# Altium footprint library ES_Pcb.PcbLib: 383 footprints (part 18 of 24)
Each footprint in its own frame and in the unit in brackets; x right, y up, seen from the top. Pads: shape width x height; smd on the part's side, far side on the other; paste and mask are expansions set on the pad; w line width, h text height; cw(c..) or ccw(c..) is an arc to the next point about the centre after c.
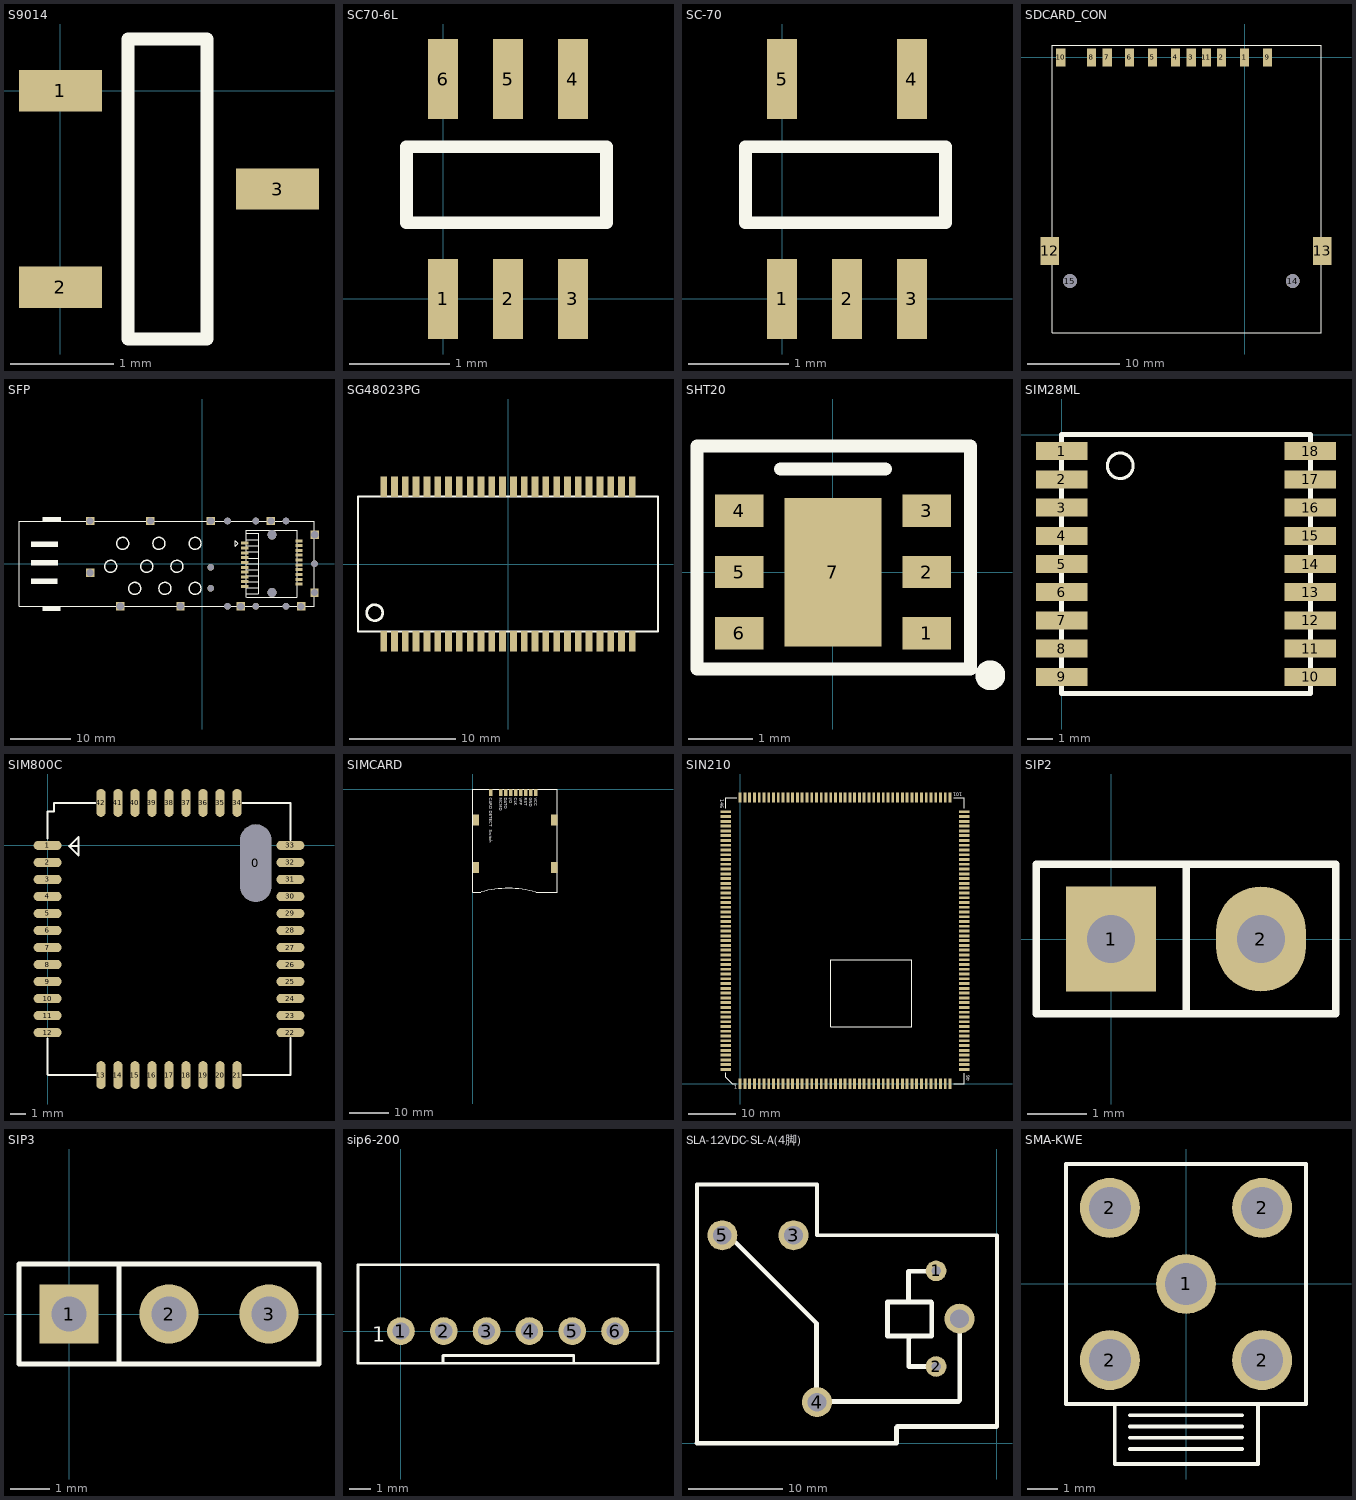
[diagram p17: the footprints below, top view; thin cyan lines are the x and y axes]

## S9014 [mm]
pads (3):
  rect 0.8x0.4 smd: 1(0,0) 2(0,-1.9) 3(2.1,-0.95)
Top Overlay:
  lines w0.127: 0.654,-2.4 1.416,-2.4 1.416,0.5 0.654,0.5 0.654,-2.4

## SC70-6L [mm]
pads (6):
  rect 0.3x0.8 smd: 1(0,0) 2(0.65,0) 3(1.3,0) 4(1.3,2.2) 5(0.65,2.2) 6(0,2.2)
Top Overlay:
  lines w0.127: -0.365,0.762 -0.365,1.524 1.635,1.524 1.635,0.762 -0.365,0.762

## SC-70 [mm]
pads (5):
  rect 0.3x0.8 smd: 1(0,0) 2(0.65,0) 3(1.3,0) 4(1.3,2.2) 5(0,2.2)
Top Overlay:
  lines w0.127: -0.365,0.762 1.635,0.762 1.635,1.524 -0.365,1.524 -0.365,0.762

## SDCARD_CON [mm]
pads (15):
  rect 1x2 smd: 1(0,0) 2(-2.5,0) 3(-5.8,0) 4(-7.5,0) 5(-10,0) 6(-12.5,0) 7(-14.925,0) 8(-16.625,0) 9(2.5,0) 10(-19.975,0) 11(-4.15,0)
  rect 2x3 smd: 12(-21.159,-21.023) 13(8.432,-21.023)
  round 1.5 hole 1.5 unplated: 14(5.225,-24.3) 15(-18.975,-24.3)
Top Overlay:
  lines w0.127: -20.9,-29.89 -20.9,1.31 8.305,1.31 8.305,-29.89 -20.9,-29.89

## SFP [mm]
pads (40):
  rect 1.2x0.5 smd: 1(7,3.412) 2(7,2.612) 3(7,1.812) 4(7,1.012) 5(7,0.212) 6(7,-0.588) 7(7,-1.388) 8(7,-2.188) 9(7,-2.988) 10(7,-3.788) 11(16,-3.388) 12(16,-2.588) 13(16,-1.788) 14(16,-0.988) 15(16,-0.188) 16(16,0.612) 17(16,1.412) 18(16,2.212) 19(16,3.012) 20(16,3.812)
  rect 1.4x1.4 hole 1.2: ""(-18.638,-1.488) ""(-18.638,7.087) ""(-13.638,-7.063) ""(-8.638,7.087) ""(-3.638,-7.063) ""(1.362,7.087) ""(6.362,-7.087) ""(11.362,7.087) ""(16.362,-7.087) ""(18.587,-4.788) ""(18.638,4.812)
  round 1.1 hole 1.1: ""(1.362,-4.064) ""(1.362,-0.584) ""(4.162,-7.063) ""(4.162,7.087) ""(8.862,-7.063) ""(8.862,7.087) ""(13.862,-7.063) ""(13.862,7.087) ""(18.587,0.012)
via 11.512,-4.788 diameter 1.5 hole 1.5
via 11.512,4.812 diameter 1.5 hole 1.5
Top Overlay:
  circle w0.254: c-13.232,3.376 r1
  circle w0.254: c-7.231,3.376 r1
  circle w0.254: c-1.231,3.376 r1
  circle w0.254: c-15.231,-0.434 r1
  circle w0.254: c-9.231,-0.434 r1
  circle w0.254: c-4.232,-0.434 r1
  circle w0.254: c-11.231,-4.092 r1
  circle w0.254: c-6.231,-4.091 r1
  circle w0.254: c-1.231,-4.091 r1
  rectangle: -26.497,-7.876 -23.551,-7.089
  rectangle: -26.498,6.957 -23.475,7.745
  rectangle: -28.479,2.741 -23.958,3.655
  rectangle: -28.479,-0.256 -24.008,0.658
  rectangle: -28.479,-3.33 -24.059,-2.415
  lines w0.2: 5.426,2.882 5.883,3.339 ; 5.426,2.907 5.426,3.822 5.883,3.364 ; 7.28,-5.563 7.28,5.587 ; 7.284,-2.999 9.24,-2.999 ; 7.284,2.004 9.24,2.004 ; 7.31,-3.99 9.266,-3.99 ; 7.31,-1.983 9.266,-1.983 ; 7.31,-0.993 9.266,-0.993 ; 7.31,-0.002 9.266,-0.002 ; 7.31,0.938 9.266,0.938 ; 7.31,2.995 9.266,2.995 ; 7.31,4.012 9.266,4.011 ; 7.335,-4.981 9.291,-4.981 ; 7.337,-5.563 15.687,-5.563 ; 7.337,5.587 15.687,5.587 ; 7.361,5.028 9.317,5.027 ; 9.342,-4.955 9.342,5.023 ; 15.692,-5.564 15.692,5.586 ; -30.438,-7.063 -30.438,7.087 18.562,7.087 18.562,-7.063 -30.438,-7.063

## SG48023PG [mm]
pads (48):
  rect 0.64x1.94 smd: 1(-11.73,-7.275) 2(-10.71,-7.275) 3(-9.69,-7.275) 4(-8.67,-7.275) 5(-7.65,-7.275) 6(-6.63,-7.275) 7(-5.61,-7.275) 8(-4.59,-7.275) 9(-3.57,-7.275) 10(-2.55,-7.275) 11(-1.53,-7.275) 12(-0.51,-7.275) 13(0.51,-7.275) 14(1.53,-7.275) 15(2.55,-7.275) 16(3.57,-7.275) 17(4.59,-7.275) 18(5.61,-7.275) 19(6.63,-7.275) 20(7.65,-7.275) 21(8.67,-7.275) 22(9.69,-7.275) 23(10.71,-7.275) 24(11.73,-7.275) 25(11.73,7.275) 26(10.71,7.275) 27(9.69,7.275) 28(8.67,7.275) 29(7.65,7.275) 30(6.63,7.275) 31(5.61,7.275) 32(4.59,7.275) 33(3.57,7.275) 34(2.55,7.275) 35(1.53,7.275) 36(0.51,7.275) 37(-0.51,7.275) 38(-1.53,7.275) 39(-2.55,7.275) 40(-3.57,7.275) 41(-4.59,7.275) 42(-5.61,7.275) 43(-6.63,7.275) 44(-7.65,7.275) 45(-8.67,7.275) 46(-9.69,7.275) 47(-10.71,7.275) 48(-11.73,7.275)
Top Overlay:
  circle w0.254: c-12.575,-4.597 r0.754
  lines w0.2: -14.15,-6.35 14.15,-6.35 14.15,6.35 -14.15,6.35 -14.15,-6.35

## SHT20 [mm]
pads (7):
  rect 0.75x0.5 smd: 1(1.452,-0.95) 2(1.452,0) 3(1.452,0.95) 4(-1.452,0.95) 5(-1.452,0) 6(-1.452,-0.95)
  rect 1.5x2.3 smd: 7(0,0)
Top Overlay:
  circle w0.254: c2.438,-1.6 r0.105
  lines w0.2: -0.813,1.6 0.813,1.6 ; -2.108,-1.5 2.134,-1.5 2.134,1.956 -2.108,1.956 -2.108,-1.5

## SIM28ML [mm]
pads (18):
  rect 2x0.7 smd: 1(0,-0.65) 2(0,-1.75) 3(0,-2.85) 4(0,-3.95) 5(0,-5.05) 6(0,-6.15) 7(0,-7.25) 8(0,-8.35) 9(0,-9.45) 10(9.7,-9.45) 11(9.7,-8.35) 12(9.7,-7.25) 13(9.7,-6.15) 14(9.7,-5.05) 15(9.7,-3.95) 16(9.7,-2.85) 17(9.7,-1.75) 18(9.7,-0.65)
Top Overlay:
  circle w0.127: c2.286,-1.219 r0.5
  lines w0.2: 0,-10.1 9.7,-10.1 9.7,0 0,0 0,-10.1

## SIM800C [mm]
pads (43):
  round 1 hole 2 slot 5 at 90 deg: 0(13.462,-1.143)
  oval 1.8x0.6 smd: 1(0,0) 2(0,-1.1) 3(0,-2.2) 4(0,-3.3) 5(0,-4.4) 6(0,-5.5) 7(0,-6.6) 8(0,-7.7) 9(0,-8.8) 10(0,-9.9) 11(0,-11) 12(0,-12.1) 22(15.7,-12.1) 23(15.7,-11) 24(15.7,-9.9) 25(15.7,-8.8) 26(15.7,-7.7) 27(15.7,-6.6) 28(15.7,-5.5) 29(15.7,-4.4) 30(15.7,-3.3) 31(15.7,-2.2) 32(15.7,-1.1) 33(15.7,0)
  oval 0.6x1.8 smd: 13(3.45,-14.85) 14(4.55,-14.85) 15(5.65,-14.85) 16(6.75,-14.85) 17(7.85,-14.85) 18(8.95,-14.85) 19(10.05,-14.85) 20(11.15,-14.85) 21(12.25,-14.85) 34(12.25,2.75) 35(11.15,2.75) 36(10.05,2.75) 37(8.95,2.75) 38(7.85,2.75) 39(6.75,2.75) 40(5.65,2.75) 41(4.55,2.75) 42(3.45,2.75)
Top Overlay:
  lines w0.127: 0,-14.808 0,-12.471 ; 0,0.432 0,2.21 0.406,2.21 0.406,2.743 3.124,2.743 ; 0.025,-14.834 3.124,-14.834 ; 2.007,-0.051 1.397,-0.051 ; 12.598,2.743 15.697,2.743 15.697,0.356 ; 12.649,-14.859 15.697,-14.859 15.697,-12.446 ; 1.397,-0.051 2.007,0.559 2.007,-0.66 1.397,-0.051

## SIMCARD [mm]
pads (13):
  rect 0.9x1.8 smd: 1(16.02,-0.9) 2(14.75,-0.9) 3(13.48,-0.9) 4(12.21,-0.9) 5(10.94,-0.9) 6(9.67,-0.9) 7(8.4,-0.9) 8(7.13,-0.9) 9(4.53,-0.9)
  rect 1.6x2.8 smd: 10(0.8,-20.05) 10(0.8,-7.85) 10(20.76,-20.05) 10(20.76,-7.85)
Top Overlay:
  lines w0.254: 2.017,-26.35 0,-26.35 0,0 21.56,0 21.56,-26.35 16.104,-26.35 ; 2.144,-26.223 cw(c8.965,-50.854) 16.053,-26.299
  text "RST" at 13.09,-2.275 h0.7
  text "VPP" at 11.82,-2.275 h0.7
  text "CARD DETECT  Switch" at 4.22,-2.275 h0.7
  text "MCMD" at 6.74,-2.275 h0.7
  text "DATO" at 8.01,-2.275 h0.7
  text "I/O" at 9.28,-2.275 h0.7
  text "CLK" at 10.55,-2.275 h0.7
  text "GND" at 14.36,-2.275 h0.7
  text "VCC" at 15.63,-2.275 h0.7

## SIN210 [mm]
pads (200):
  rect 0.6x2.2 smd: 1(0,0) 2(1,0) 3(2,0) 4(3,0) 5(4,0) 6(5,0) 7(6,0) 8(7,0) 9(8,0) 10(9,0) 11(10,0) 12(11,0) 13(12,0) 14(13,0) 15(14,0) 16(15,0) 17(16,0) 18(17,0) 19(18,0) 20(19,0) 21(20,0) 22(21,0) 23(22,0) 24(23,0) 25(24,0) 26(25,0) 27(26,0) 28(27,0) 29(28,0) 30(29,0) 31(30,0) 32(31,0) 33(32,0) 34(33,0) 35(34,0) 36(35,0) 37(36,0) 38(37,0) 39(38,0) 40(39,0) 41(40,0) 42(41,0) 43(42,0) 44(43,0) 45(44,0) 101(44,60) 102(43,60) 103(42,60) 104(41,60) 105(40,60) 106(39,60) 107(38,60) 108(37,60) 109(36,60) 110(35,60) 111(34,60) 112(33,60) 113(32,60) 114(31,60) 115(30,60) 116(29,60) 117(28,60) 118(27,60) 119(26,60) 120(25,60) 121(24,60) 122(23,60) 123(22,60) 124(21,60) 125(20,60) 126(19,60) 127(18,60) 128(17,60) 129(16,60) 130(15,60) 131(14,60) 132(13,60) 133(12,60) 134(11,60) 135(10,60) 136(9,60) 137(8,60) 138(7,60) 139(6,60) 140(5,60) 141(4,60) 142(3,60) 143(2,60) 144(1,60) 145(0,60)
  rect 2.2x0.6 smd: 46(47,3) 47(47,4) 48(47,5) 49(47,6) 50(47,7) 51(47,8) 52(47,9) 53(47,10) 54(47,11) 55(47,12) 56(47,13) 57(47,14) 58(47,15) 59(47,16) 60(47,17) 61(47,18) 62(47,19) 63(47,20) 64(47,21) 65(47,22) 66(47,23) 67(47,24) 68(47,25) 69(47,26) 70(47,27) 71(47,28) 72(47,29) 73(47,30) 74(47,31) 75(47,32) 76(47,33) 77(47,34) 78(47,35) 79(47,36) 80(47,37) 81(47,38) 82(47,39) 83(47,40) 84(47,41) 85(47,42) 86(47,43) 87(47,44) 88(47,45) 89(47,46) 90(47,47) 91(47,48) 92(47,49) 93(47,50) 94(47,51) 95(47,52) 96(47,53) 97(47,54) 98(47,55) 99(47,56) 100(47,57) 146(-3,57) 147(-3,56) 148(-3,55) 149(-3,54) 150(-3,53) 151(-3,52) 152(-3,51) 153(-3,50) 154(-3,49) 155(-3,48) 156(-3,47) 157(-3,46) 158(-3,45) 159(-3,44) 160(-3,43) 161(-3,42) 162(-3,41) 163(-3,40) 164(-3,39) 165(-3,38) 166(-3,37) 167(-3,36) 168(-3,35) 169(-3,34) 170(-3,33) 171(-3,32) 172(-3,31) 173(-3,30) 174(-3,29) 175(-3,28) 176(-3,27) 177(-3,26) 178(-3,25) 179(-3,24) 180(-3,23) 181(-3,22) 182(-3,21) 183(-3,20) 184(-3,19) 185(-3,18) 186(-3,17) 187(-3,16) 188(-3,15) 189(-3,14) 190(-3,13) 191(-3,12) 192(-3,11) 193(-3,10) 194(-3,9) 195(-3,8) 196(-3,7) 197(-3,6) 198(-3,5) 199(-3,4) 200(-3,3)
Top Overlay:
  lines w0.127: -3,2.258 -3,1.33 -1.67,0 -0.813,0 ; -3,57.757 -3,60 -0.736,60 ; 44.73,60 47,60 47,57.719 ; 44.786,0 47,0 47,2.231 ; 19,12 36,12 36,26 19,26 19,12
  text "146" at -4.143,59.623 h0.76
  text "101" at 46.53,61.02 h0.76
  text "46" at 48.181,0.568 h0.76
  text "1" at -1.222,-1.083 h0.76

## SIP2 [mil]
pads (2):
  rect 60x70 hole 32: 1(0,0)
  oval 60x70 hole 32: 2(100,0)
Top Overlay:
  lines w5: 50,-50 50,50 ; -50,-50 -50,50 150,50 150,-50 -50,-50

## SIP3 [mm] "Connector; Header; 3 Position"
pads (3):
  rect 1.5x1.5 hole 0.9: 1(0,0)
  round 1.5 hole 0.9: 2(2.54,0) 3(5.08,0)
Top Overlay:
  lines w0.127: 1.27,-1.27 1.27,1.27 ; -1.27,-1.27 6.35,-1.27 6.35,1.27 -1.27,1.27 -1.27,-1.27

## sip6-200 [mm]
pads (6):
  round 1.3 hole 0.8: 1(0,0) 2(2,0) 3(4,0) 4(6,0) 5(8,0) 6(10,0)
Top Overlay:
  lines w0.127: 1.968,-1.5 1.968,-1.137 8.064,-1.137 8.064,-1.5 ; 11.94,-1.5 -2,-1.5 -2,3.1 12,3.1 12,-1.5
  text "1" at -1.334,-0.502 h0.7

## SLA-12VDC-SL-A(4脚) [mm]
pads (6):
  round 2.2 hole 1: 1(-6.5,18.4) 2(-6.5,8.2)
  round 3.2 hole 2: 3(-21.7,22.2) 4(-19.2,4.4) 5(-29.3,22.2) ""(-4,13.3)
Top Overlay:
  lines w0.127: -19.202,27.6 -19.2,27.598
  lines w0.4: -32,0 -32,27.6 -19.202,27.6 ; -19.2,27.598 -19.2,22.2 0,22.2 0,1.803
  lines w0.5: -32,0 -10.719,0 -10.719,1.727 -10.643,1.803 -0.051,1.803 ; -27.826,21.374 -19.253,12.802 -19.253,5.944 ; -17.551,4.47 -4.089,4.47 -3.962,4.597 -3.962,11.913 ; -9.449,15.367 -9.449,18.364 -6.731,18.364 ; -9.373,11.201 -9.398,11.176 -9.398,8.204 -6.68,8.204 ; -11.684,11.455 -11.684,15.088 -7.036,15.088 -6.96,15.011 -6.96,11.481 -6.985,11.455 -11.684,11.455

## SMA-KWE [mm]
pads (5):
  round 2 hole 1.4: 1(0,0) 2(-2.54,-2.54) 2(-2.54,2.54) 2(2.54,-2.54) 2(2.54,2.54)
Top Overlay:
  lines w0.127: -2.375,-4 -2.375,-6 2.4,-6 2.4,-4 ; -1.875,-5.5 1.875,-5.5 ; -1.875,-5.125 1.875,-5.125 ; -1.875,-4.75 1.875,-4.75 ; -1.875,-4.375 1.875,-4.375 ; -4,-4 4,-4 4,4 -4,4 -4,-4